# EAGLE library part INA321EA_250 (library INA321EA_250)
Micropower single-supply CMOS Instrumentation Amplifier Source: Datasheet <http://www.ti.com/lit/ds/symlink/ina321.pdf>
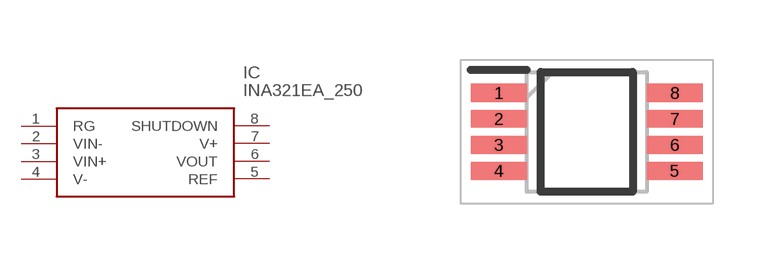
[diagram p0: symbol with the pads of SOP65P490X110-8N; footprint SOP65P490X110-8N]

Designator prefix IC

## INA321EA_250 (Description: Micropower single-supply CMOS Instrumentation Amplifier; Height: 1.1mm; Manufacturer_Name: Texas Instruments; Manufacturer_Part_Number: INA321EA/250; Mouser_Part_Number: 595-INA321EA/250; Mouser_Price-Stock: https://www.mouser.co.uk/ProductDetail/Texas-Instruments/INA321EA-250?qs=VBduBm9rCJSLQYlEY0DxmQ%3D%3D)  [SOP65P490X110-8N]
1  RG
2  VIN-
3  VIN+
4  V-
5  REF
6  VOUT
7  V+
8  SHUTDOWN

## Footprint SOP65P490X110-8N (pad centres in mm)
DGK (S-PDSO-G8)
smd 1.4 x 0.45: 1 -2.2,0.975; 2 -2.2,0.325; 3 -2.2,-0.325; 4 -2.2,-0.975; 5 2.2,-0.975; 6 2.2,-0.325; 7 2.2,0.325; 8 2.2,0.975